# EAGLE library part AT93C*6 (library atmel)
3-wire serial EEPROM
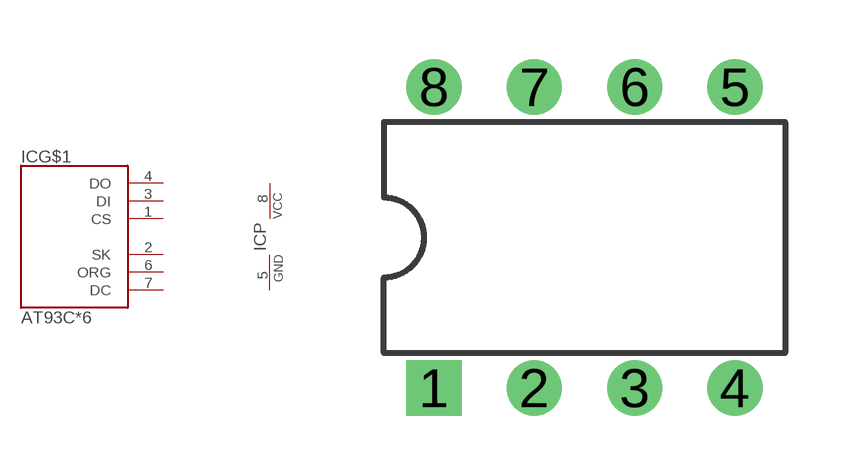
[diagram p6: symbol with the pads of DIL08; footprint DIL08]

Designator prefix IC; gates G$1=93CX6 P=PWR

## AT93C6P  [DIL08]
1  G$1:CS  in
2  G$1:SK
3  G$1:DI  in
4  G$1:DO  out
5  P:GND  pwr
6  G$1:ORG  in
7  G$1:DC  in
8  P:VCC  pwr

## Footprint DIL08 (pad centres in mm)
DIL package, pin row distance 300mil
drill 0.8 pad 1.4 square: 1 -3.81,-3.81
drill 0.8 pad 1.4: 2 -1.27,-3.81; 3 1.27,-3.81; 4 3.81,-3.81; 5 3.81,3.81; 6 1.27,3.81; 7 -1.27,3.81; 8 -3.81,3.81